# EAGLE library part M06 (library custom)
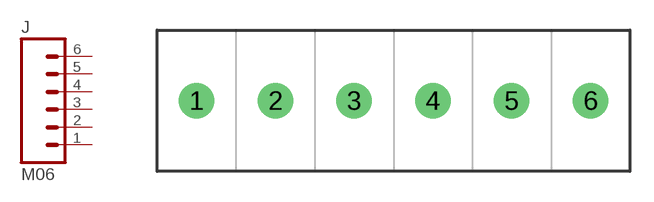
[diagram p125: symbol with the pads of PHOENIXCONTACT1935815; footprint PHOENIXCONTACT1935815]

Designator prefix J

## M06  [PHOENIXCONTACT1935815]
1  1  pas
2  2  pas
3  3  pas
4  4  pas
5  5  pas
6  6  pas

## Footprint PHOENIXCONTACT1935815 (pad centres in mm)
drill 1.5: 1 0,0; 2 5,0; 3 10,0; 4 15,0; 5 20,0; 6 25,0